# Altium schematic symbol library 691 309 310 0xx.SchLib: 9 symbols
Pins are listed as number, name and electrical type; pins without a type are passive.

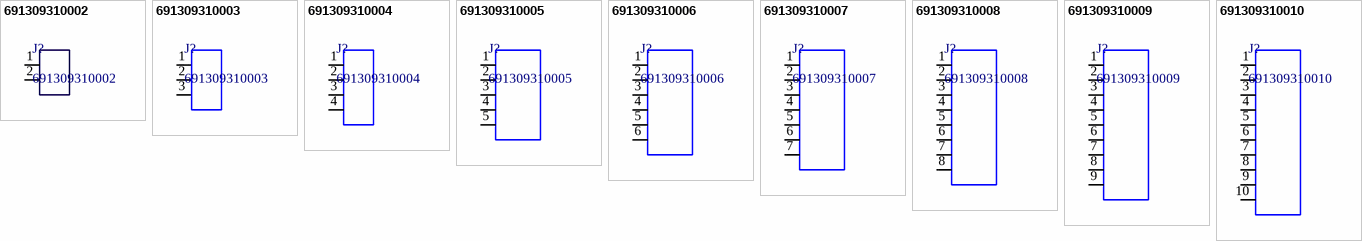
[diagram p0: symbols 691309310002 to 691309310010]

## 691309310002
designator J?
WR-TBL Terminal Blocks - Serie 3093; Manufacturer: Wurth Elektronik; ComponentLink1 Description: Manufacturer; ComponentLink2 Description: Datasheet; ComponentLink1URL: http://www.we-online.de; ComponentLink2URL: http://katalog.we-online.de/em/datasheet/6913093100xx.pdf; Created by: Baojun Chen; Created Date: 8.Sep.2015; partNo: 691309310002
footprint 691309310002 (Serie 3093 - 3.81 mm _ 2 pins)
pins: 1, 2

## 691309310003
designator J?
WR-TBL Terminal Blocks - Serie 3093; Manufacturer: Wurth Elektronik; ComponentLink1 Description: Manufacturer; ComponentLink2 Description: Datasheet; ComponentLink1URL: http://www.we-online.de; ComponentLink2URL: http://katalog.we-online.de/em/datasheet/6913093100xx.pdf; Created by: Baojun Chen; Created Date: 8.Sep.2015; partNo: 691309310003
footprint 691309310003 (Serie 3093 - 3.81 mm _ 3 pins)
pins: 1, 2, 3

## 691309310004
designator J?
WR-TBL Terminal Blocks - Serie 3093; Manufacturer: Wurth Elektronik; ComponentLink1 Description: Manufacturer; ComponentLink2 Description: Datasheet; ComponentLink1URL: http://www.we-online.de; ComponentLink2URL: http://katalog.we-online.de/em/datasheet/6913093100xx.pdf; Created by: Baojun Chen; Created Date: 8.Sep.2015; partNo: 691309310004
footprint 691309310004 (Serie 3093 - 3.81 mm _ 4 pins)
pins: 1, 2, 3, 4

## 691309310005
designator J?
WR-TBL Terminal Blocks - Serie 3093; Manufacturer: Wurth Elektronik; ComponentLink1 Description: Manufacturer; ComponentLink2 Description: Datasheet; ComponentLink1URL: http://www.we-online.de; ComponentLink2URL: http://katalog.we-online.de/em/datasheet/6913093100xx.pdf; Created by: Baojun Chen; Created Date: 8.Sep.2015; partNo: 691309310005
footprint 691309310005 (Serie 3093 - 3.81 mm _ 5 pins)
pins: 1, 2, 3, 4, 5

## 691309310006
designator J?
WR-TBL Terminal Blocks - Serie 3093; Manufacturer: Wurth Elektronik; ComponentLink1 Description: Manufacturer; ComponentLink2 Description: Datasheet; ComponentLink1URL: http://www.we-online.de; ComponentLink2URL: http://katalog.we-online.de/em/datasheet/6913093100xx.pdf; Created by: Baojun Chen; Created Date: 8.Sep.2015; partNo: 691309310006
footprint 691309310006 (Serie 3093 - 3.81 mm _ 6 pins)
pins: 1, 2, 3, 4, 5, 6

## 691309310007
designator J?
WR-TBL Terminal Blocks - Serie 3093; Manufacturer: Wurth Elektronik; ComponentLink1 Description: Manufacturer; ComponentLink2 Description: Datasheet; ComponentLink1URL: http://www.we-online.de; ComponentLink2URL: http://katalog.we-online.de/em/datasheet/6913093100xx.pdf; Created by: Baojun Chen; Created Date: 8.Sep.2015; partNo: 691309310007
footprint 691309310007 (Serie 3093 - 3.81 mm _ 7 pins)
pins: 1, 2, 3, 4, 5, 6, 7

## 691309310008
designator J?
WR-TBL Terminal Blocks - Serie 3093; Manufacturer: Wurth Elektronik; ComponentLink1 Description: Manufacturer; ComponentLink2 Description: Datasheet; ComponentLink1URL: http://www.we-online.de; ComponentLink2URL: http://katalog.we-online.de/em/datasheet/6913093100xx.pdf; Created by: Baojun Chen; Created Date: 8.Sep.2015; partNo: 691309310008
footprint 691309310008 (Serie 3093 - 3.81 mm _ 8 pins)
pins: 1, 2, 3, 4, 5, 6, 7, 8

## 691309310009
designator J?
WR-TBL Terminal Blocks - Serie 3093; Manufacturer: Wurth Elektronik; ComponentLink1 Description: Manufacturer; ComponentLink2 Description: Datasheet; ComponentLink1URL: http://www.we-online.de; ComponentLink2URL: http://katalog.we-online.de/em/datasheet/6913093100xx.pdf; Created by: Baojun Chen; Created Date: 8.Sep.2015; partNo: 691309310009
footprint 691309310009 (Serie 3093 - 3.81 mm _ 9 pins)
pins: 1, 2, 3, 4, 5, 6, 7, 8, 9

## 691309310010
designator J?
WR-TBL Terminal Blocks - Serie 3093; Manufacturer: Wurth Elektronik; ComponentLink1 Description: Manufacturer; ComponentLink2 Description: Datasheet; ComponentLink1URL: http://www.we-online.de; ComponentLink2URL: http://katalog.we-online.de/em/datasheet/6913093100xx.pdf; Created by: Baojun Chen; Created Date: 8.Sep.2015; partNo: 691309310010
footprint 691309310010 (Serie 3093 - 3.81 mm _ 10 pins)
pins: 1, 2, 3, 4, 5, 6, 7, 8, 9, 10